# EAGLE library part DRV8701P (library DRV8701)
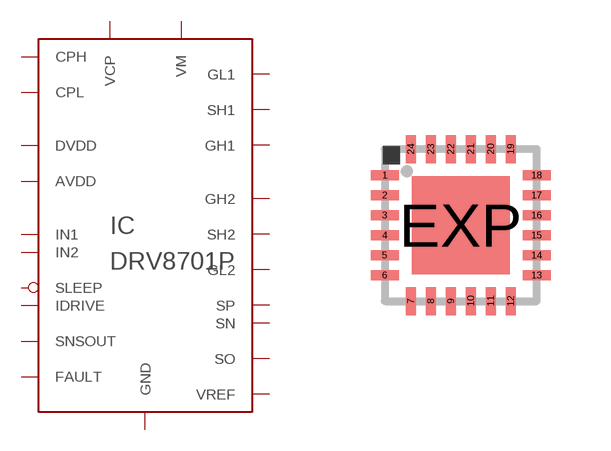
[diagram p0: symbol with the pads of QFN24-4X4; footprint QFN24-4X4]

Designator prefix IC

## DRV8701P  [QFN24-4X4]
1  VM  pwr
2  VCP
3  CPH
4  CPL
5  GND  pwr
6  VREF  out
7  AVDD  out
8  DVDD  out
9  FAULT  oc
10  SNSOUT  oc
11  SO  out
12  IDRIVE
13  SLEEP  in
14  IN2  in
15  IN1  in
16  GND  pwr
17  GH1  out
18  SH1
19  GL1  out
20  SN  in
21  SP  in
22  GL2  out
23  SH2
24  GH2  out
EXP  GND  pwr

## Footprint QFN24-4X4 (pad centres in mm)
UF Package 24-Lead (4mm × 4mm) Plastic QFN Source: http://cds.linear.com/docs/Datasheet/5598f.pdf
smd 0.7 x 0.25: 1 -1.9,1.25; 2 -1.9,0.75; 3 -1.9,0.25; 4 -1.9,-0.25; 5 -1.9,-0.75; 6 -1.9,-1.25; 13 1.9,-1.25; 14 1.9,-0.75; 15 1.9,-0.25; 16 1.9,0.25; 17 1.9,0.75; 18 1.9,1.25
smd 0.25 x 0.7: 7 -1.25,-1.9; 8 -0.75,-1.9; 9 -0.25,-1.9; 10 0.25,-1.9; 11 0.75,-1.9; 12 1.25,-1.9; 19 1.25,1.9; 20 0.75,1.9; 21 0.25,1.9; 22 -0.25,1.9; 23 -0.75,1.9; 24 -1.25,1.9
smd 2.45 x 2.45: EXP 0,0